# EAGLE library part PIC32MX5*H? (library mchp_pic32)
64 pins, USB and CAN Microcontroller, from 64k to 512k and 32k/128k Ram Description PIC32MX564F064H (64k Flash, 32k Ram) PIC32MX564F128H (128k Flash, 32k Ram) PIC32MX575F256H (256k Flash, 64k Ram) PIC32MX575F512H (512k Flash, 64k Ram) PIC32MX595F512H (512k Flash, 128k Ram) MCU Core -80MHz, 1.56 DMIPS/MHz, 32-bit MIPS M4K® Core -USB 2.0 On-The-Go Peripheral with integrated PHY -10/100 Ethernet MAC with MII/RMII Interfaces -2 x CAN2.0b modules with 1024 buffers -8 Dedicated DMA Channels for USB OTG, Ethernet, and CAN -5 Stage pipeline, Harvard architecture -MIPS16e mode for up to 40% smaller code size -Single cycle multiply and hardware divide unit -32 x 32-bit Core Registers -32 x 32-bit Shadow Registers -Fast context switch and interrupt response MCU System Features -512K Flash (plus 12K boot Flash) -128K RAM (can execute from RAM) -8 Channel General Hardware DMA Controller -Flash prefetch module with 256 Byte cache -Lock instructions or data in cache for fast access -Programmable vector interrupt controller Analog Features -Fast and Accurate 16 channel 10-bit ADC, Max 1 Mega sample per second at +/- 1LSB, conversion available during SLEEP & IDLE -Power Management Modes -RUN, IDLE, and SLEEP modes -Multiple switchable clock modes for each power mode, enables optimum power settings Debug Features -iFlow Trace: Non-intrusive Hardware Instruction Trace port (5 Wires) -8 hardware breakpoints (6 Instruction and 2 Data) -2 wire programming and debugging interface -JTAG interface supporting Programming, Debugging and Boundary scan Other MCU Features -Fail-Safe Clock Monitor - allows safe shutdown if clock fails -2 Internal oscillators (8MHz & 31KHz) -Hardware RTCC (Real-Time Clock and Calendar with Alarms) -Watchdog Timer with separate RC oscillator -Pin compatible with 16-bit PIC® MCUs -Serial Communication Modules allow flexible UART/SPI/I2C™ configuration Device Program Data USB CAN Timers/ Capture/ Compare DMA Channels UART SPI I2C ADC channels Comparators PMP/PSP Jtag Trace PIC32MX564F064H 64 32 1 1 5/5/5 4/4 6 3 4 16 2 Yes Yes No PIC32MX564F128H 128 32 1 1 5/5/5 4/4 6 3 4 16 2 Yes Yes No PIC32MX575F256H 256 64 1 1 5/5/5 8/4 6 3 4 16 2 Yes Yes No PIC32MX575F512H 256 64 1 1 5/5/5 8/4 6 3 4 16 2 Yes Yes No PIC32MX595F512H 512 128 1 1 5/5/5 8/4 6 3 4 16 2 Yes Yes No Ref: Datasheet <http://ww1.microchip.com/downloads/en/DeviceDoc/61156G.pdf>
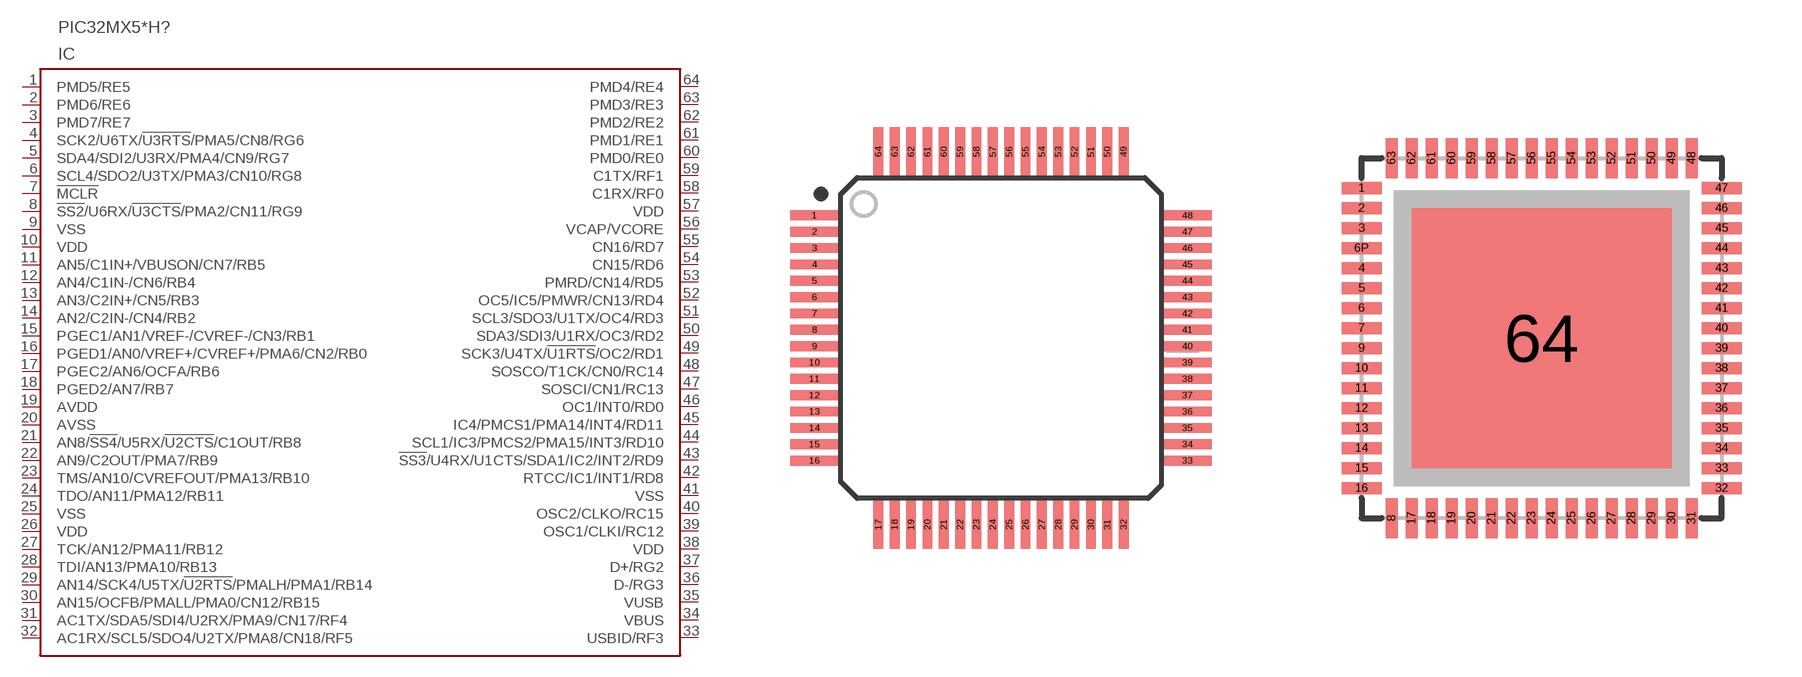
[diagram p5: symbol with the pads of QFP50P1200X1200X100-64N; footprints QFP50P1200X1200X100-64N, QFN50P900X900X100-64N]

Designator prefix IC

## PIC32MX534F064H-80I/PT, PIC32MX564F064H-80I/PT, PIC32MX564F128H-80I/PT, PIC32MX575F256H-80I/PT, PIC32MX575F512H-80I/PT  [QFP50P1200X1200X100-64N]
1  PMD5/RE5
2  PMD6/RE6
3  PMD7/RE7
4  SCK2/U6TX/!U3RTS!/PMA5/CN8/RG6
5  SDA4/SDI2/U3RX/PMA4/CN9/RG7
6  SCL4/SDO2/U3TX/PMA3/CN10/RG8
7  !MCLR
8  !SS2!/U6RX/!U3CTS!/PMA2/CN11/RG9
9  VSS  pwr
10  VDD  pwr
11  AN5/C1IN+/VBUSON/CN7/RB5
12  AN4/C1IN-/CN6/RB4
13  AN3/C2IN+/CN5/RB3
14  AN2/C2IN-/CN4/RB2
15  PGEC1/AN1/VREF-/CVREF-/CN3/RB1
16  PGED1/AN0/VREF+/CVREF+/PMA6/CN2/RB0
17  PGEC2/AN6/OCFA/RB6
18  PGED2/AN7/RB7
19  AVDD  pwr
20  AVSS  pwr
21  AN8/!SS4!/U5RX/!U2CTS!/C1OUT/RB8
22  AN9/C2OUT/PMA7/RB9
23  TMS/AN10/CVREFOUT/PMA13/RB10
24  TDO/AN11/PMA12/RB11
25  VSS  pwr
26  VDD  pwr
27  TCK/AN12/PMA11/RB12
28  TDI/AN13/PMA10/RB13
29  AN14/SCK4/U5TX/!U2RTS!/PMALH/PMA1/RB14
30  AN15/OCFB/PMALL/PMA0/CN12/RB15
31  AC1TX/SDA5/SDI4/U2RX/PMA9/CN17/RF4
32  AC1RX/SCL5/SDO4/U2TX/PMA8/CN18/RF5
33  USBID/RF3
34  VBUS  pwr
35  VUSB  pwr
36  D-/RG3
37  D+/RG2
38  VDD  pwr
39  OSC1/CLKI/RC12
40  OSC2/CLKO/RC15
41  VSS  pwr
42  RTCC/IC1/INT1/RD8
43  !SS3!/U4RX/U1CTS/SDA1/IC2/INT2/RD9
44  SCL1/IC3/PMCS2/PMA15/INT3/RD10
45  IC4/PMCS1/PMA14/INT4/RD11
46  OC1/INT0/RD0
47  SOSCI/CN1/RC13
48  SOSCO/T1CK/CN0/RC14
49  SCK3/U4TX/!U1RTS!/OC2/RD1
50  SDA3/SDI3/U1RX/OC3/RD2
51  SCL3/SDO3/U1TX/OC4/RD3
52  OC5/IC5/PMWR/CN13/RD4
53  PMRD/CN14/RD5
54  CN15/RD6
55  CN16/RD7
56  VCAP/VCORE  pwr
57  VDD  pwr
58  C1RX/RF0
59  C1TX/RF1
60  PMD0/RE0
61  PMD1/RE1
62  PMD2/RE2
63  PMD3/RE3
64  PMD4/RE4

## PIC32MX534F064H-80I/MR, PIC32MX564F064H-80I/MR, PIC32MX564F128H-80I/MR, PIC32MX575F256H-80I/MR, PIC32MX575F512H-80I/MR  [QFN50P900X900X100-64N]
Pads as for QFP50P1200X1200X100-64N

## Footprint QFP50P1200X1200X100-64N (pad centres in mm)
0.5Pitch, Quad Flat Pack (QFP64) 0.5mm Pitch 16 x16, 64 Pin count 12.0mm L x 12.0mm W x 1.0mm H --------------------------------------------
smd 1.5 x 0.3: 1 -5.7,3.75; 2 -5.7,3.25; 3 -5.7,2.75; 4 -5.7,2.25; 5 -5.7,1.75; 6 -5.7,1.25; 7 -5.7,0.75; 8 -5.7,0.25; 9 -5.7,-0.25; 10 -5.7,-0.75; 11 -5.7,-1.25; 12 -5.7,-1.75; 13 -5.7,-2.25; 14 -5.7,-2.75; 15 -5.7,-3.25; 16 -5.7,-3.75; 33 5.7,-3.75; 34 5.7,-3.25; 35 5.7,-2.75; 36 5.7,-2.25; 37 5.7,-1.75; 38 5.7,-1.25; 39 5.7,-0.75; 40 5.7,-0.25; 41 5.7,0.25; 42 5.7,0.75; 43 5.7,1.25; 44 5.7,1.75; 45 5.7,2.25; 46 5.7,2.75; 47 5.7,3.25; 48 5.7,3.75
smd 0.3 x 1.5: 17 -3.75,-5.7; 18 -3.25,-5.7; 19 -2.75,-5.7; 20 -2.25,-5.7; 21 -1.75,-5.7; 22 -1.25,-5.7; 23 -0.75,-5.7; 24 -0.25,-5.7; 25 0.25,-5.7; 26 0.75,-5.7; 27 1.25,-5.7; 28 1.75,-5.7; 29 2.25,-5.7; 30 2.75,-5.7; 31 3.25,-5.7; 32 3.75,-5.7; 49 3.75,5.7; 50 3.25,5.7; 51 2.75,5.7; 52 2.25,5.7; 53 1.75,5.7; 54 1.25,5.7; 55 0.75,5.7; 56 0.25,5.7; 57 -0.25,5.7; 58 -0.75,5.7; 59 -1.25,5.7; 60 -1.75,5.7; 61 -2.25,5.7; 62 -2.75,5.7; 63 -3.25,5.7; 64 -3.75,5.7

## Footprint QFN50P900X900X100-64N (pad centres in mm)
0.5Pitch, Quad Flat No lead package (QFN64) 0.5mm Pitch 16 x16, 64 Pin count 9.0mm L x 9.0mm W x 1.0mm H ----------------------------------------------------
smd 1 x 0.3: 1 -4.5,3.75; 2 -4.5,3.25; 3 -4.5,2.75; 4 -4.5,1.75; 5 -4.5,1.25; 6 -4.5,0.75; 6P -4.5,2.25; 7 -4.5,0.25; 9 -4.5,-0.25; 10 -4.5,-0.75; 11 -4.5,-1.25; 12 -4.5,-1.75; 13 -4.5,-2.25; 14 -4.5,-2.75; 15 -4.5,-3.25; 16 -4.5,-3.75; 32 4.5,-3.75; 33 4.5,-3.25; 34 4.5,-2.75; 35 4.5,-2.25; 36 4.5,-1.75; 37 4.5,-1.25; 38 4.5,-0.75; 39 4.5,-0.25; 40 4.5,0.25; 41 4.5,0.75; 42 4.5,1.25; 43 4.5,1.75; 44 4.5,2.25; 45 4.5,2.75; 46 4.5,3.25; 47 4.5,3.75
smd 0.3 x 1: 8 -3.75,-4.5; 17 -3.25,-4.5; 18 -2.75,-4.5; 19 -2.25,-4.5; 20 -1.75,-4.5; 21 -1.25,-4.5; 22 -0.75,-4.5; 23 -0.25,-4.5; 24 0.25,-4.5; 25 0.75,-4.5; 26 1.25,-4.5; 27 1.75,-4.5; 28 2.25,-4.5; 29 2.75,-4.5; 30 3.25,-4.5; 31 3.75,-4.5; 48 3.75,4.5; 49 3.25,4.5; 50 2.75,4.5; 51 2.25,4.5; 52 1.75,4.5; 53 1.25,4.5; 54 0.75,4.5; 55 0.25,4.5; 56 -0.25,4.5; 57 -0.75,4.5; 58 -1.25,4.5; 59 -1.75,4.5; 60 -2.25,4.5; 61 -2.75,4.5; 62 -3.25,4.5; 63 -3.75,4.5
smd 6.5 x 6.5: 64 0,0